# EAGLE library part 686312124422 (library Wuerth_Elektronik_eiCan_03_ZIF_Connectors_&_Flat_Flexible_Cable)
WR-FPC-1.00mm SMT ZIF Vertical Type A,12 pins
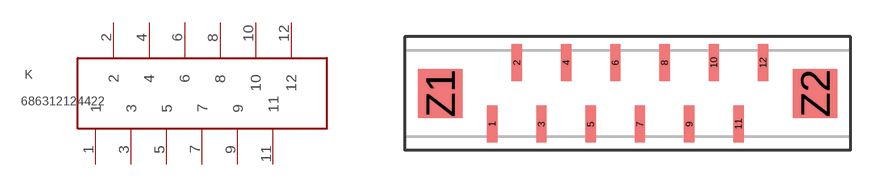
[diagram p126: symbol with the pads of 686312124422; footprint 686312124422]

Designator prefix K

## 686312124422  [686312124422]
1  1
2  2
3  3
4  4
5  5
6  6
7  7
8  8
9  9
10  10
11  11
12  12

## Footprint 686312124422 (pad centres in mm)
WR-FPC-1.00mm SMT ZIF Vertical Type A,12 pins
smd 0.42 x 1.5: 1 -5.31,-1.25; 2 -4.31,1.25; 3 -3.31,-1.25; 4 -2.31,1.25; 5 -1.31,-1.25; 6 -0.31,1.25; 7 0.69,-1.25; 8 1.69,1.25; 9 2.69,-1.25; 10 3.69,1.25; 11 4.69,-1.25; 12 5.69,1.25
smd 1.8 x 2: Z1 -7.42,0; Z2 7.8,0